# EAGLE library part NFCSCHNITTSTELLE_2 (library Diplomarbeit)
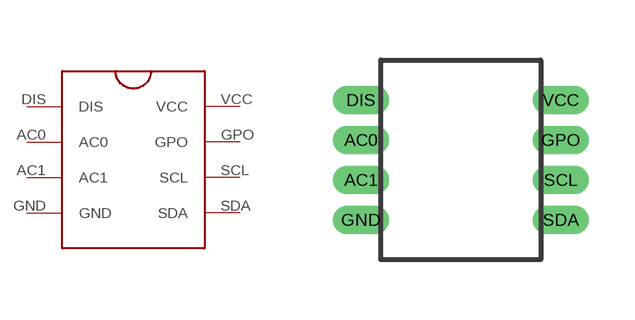
[diagram p4: symbol with the pads of NFCSCHNITTSTELLE_2; footprint NFCSCHNITTSTELLE_2]

Designator prefix -

## NFCSCHNITTSTELLE_2  [NFCSCHNITTSTELLE_2]
AC0  AC0
AC1  AC1
DIS  DIS
GND  GND
GPO  GPO
SCL  SCL
SDA  SDA
VCC  VCC

## Footprint NFCSCHNITTSTELLE_2 (pad centres in mm)
drill 0.2 pad 0.406 long: AC0 -2.5,0.5; AC1 -2.5,-0.5; DIS -2.5,1.5; GND -2.5,-1.5; GPO 2.5,0.5; SCL 2.5,-0.5; SDA 2.5,-1.5; VCC 2.5,1.5